# Altium footprint library Flex-strap-914x394.PcbLib: 1 footprints
Each footprint in its own frame and in the unit in brackets; x right, y up, seen from the top. Pads: shape width x height; smd on the part's side, far side on the other; paste and mask are expansions set on the pad; w line width, h text height; cw(c..) or ccw(c..) is an arc to the next point about the centre after c.
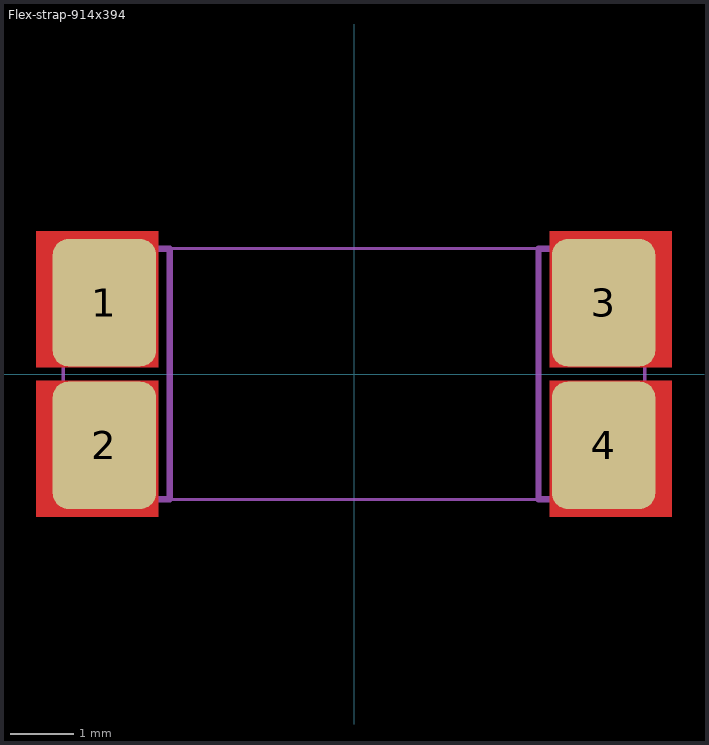
[diagram p0: the footprint, top view; thin cyan lines are the x and y axes]

## Flex-strap-914x394 [mm]
pads (4):
  rrect30% 1.626x2 smd paste-0.102 mask+0: 1(-3.922,1.12) 2(-3.922,-1.12) 3(3.922,1.12) 4(3.922,-1.12)
Top Layer:
  rectangle: -5,-2.25 -3.07,-0.1
  rectangle: -5,0.1 -3.07,2.25
  rectangle: 3.07,-2.25 5,-0.1
  rectangle: 3.07,0.1 5,2.25
Mechanical 1:
  lines w0.05: -4.57,-1.97 -4.57,1.97 4.57,1.97 4.57,-1.97 -4.57,-1.97
  lines w0.1: -4.576,-1.97 -2.906,-1.97 ; -4.57,1.97 -2.91,1.97 ; -2.897,-1.97 -2.897,1.97 ; 4.56,1.97 2.9,1.97 2.9,-1.97 4.57,-1.97
3D body: height 0.3, standoff 0, extent -2.9,-1.97 2.907,1.97
3D body: height 0.3, standoff 0, extent -4.58,-1.97 -2.896,1.97
3D body: height 0.3, standoff 0, extent 2.89,-1.97 4.574,1.97